# EAGLE library part TFT-TOUCH (library STMBerry)
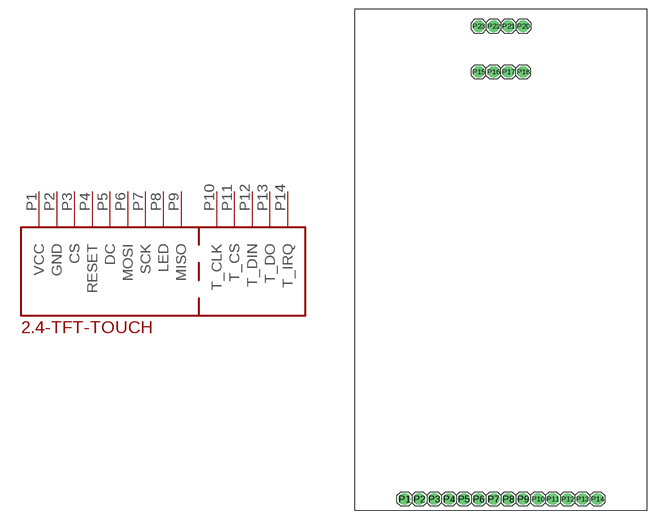
[diagram p8: symbol with the pads of TFT-TOUCH; footprint TFT-TOUCH]

Designator prefix -

## TFT-TOUCH  [TFT-TOUCH]
P1  VCC
P2  GND
P3  CS
P4  RESET
P5  DC
P6  MOSI
P7  SCK
P8  LED
P9  MISO
P10  T_CLK
P11  T_CS
P12  T_DIN
P13  T_DO
P14  T_IRQ

## Footprint TFT-TOUCH (pad centres in mm)
drill 1 pad 2: P1 -16.51,-41; P2 -13.97,-41; P3 -11.43,-41; P4 -8.89,-41; P5 -6.35,-41; P6 -3.81,-41; P7 -1.27,-41; P8 1.27,-41; P9 3.81,-41; P10 6.35,-41; P11 8.89,-41; P12 11.43,-41; P13 13.97,-41; P14 16.51,-41; P15 -3.81,32.18; P16 -1.27,32.18; P17 1.27,32.18; P18 3.81,32.18; P20 3.82,40.005; P21 1.28,40.005; P22 -1.26,40.005; P23 -3.8,40.005